# EAGLE library part 3310PANEL (library mastrogippo)
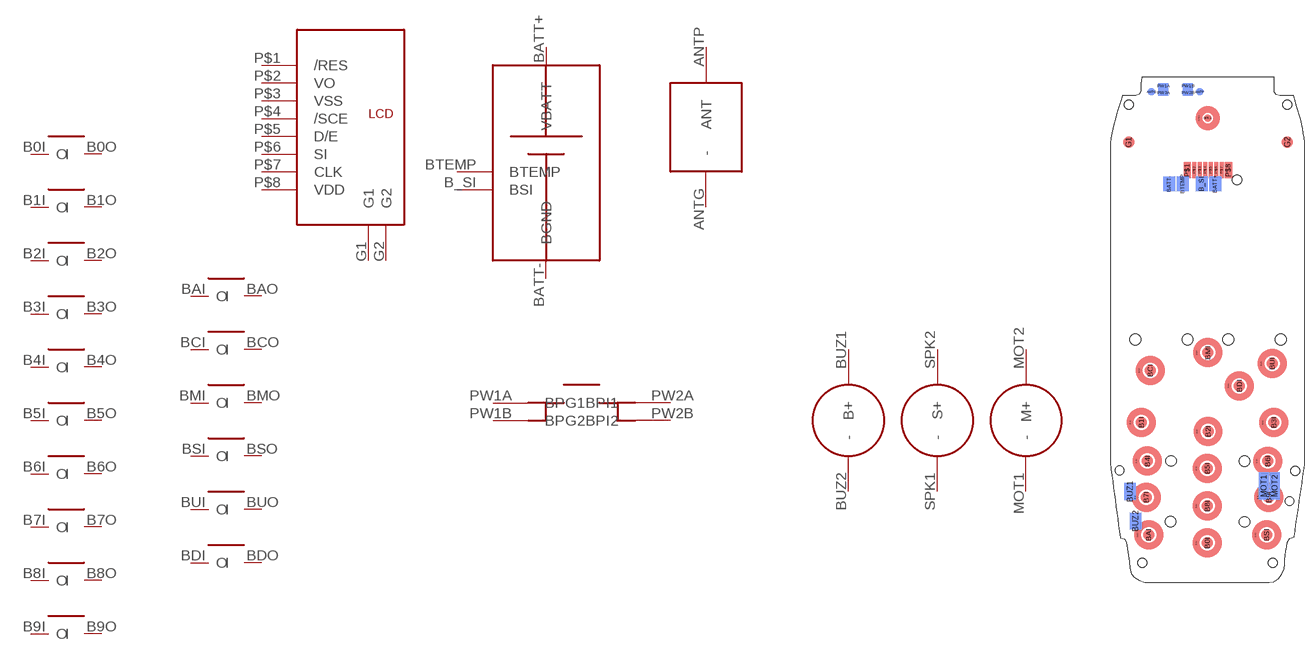
[diagram p5: symbol with the pads of 3310LCD; footprint 3310LCD]

Designator prefix -; gates G$1=3310LCD G$2=3310KEYB G$3=3310KEYB G$4=3310KEYB G$5=3310KEYB G$6=3310KEYB G$7=3310KEYB G$8=3310KEYB G$9=3310KEYB G$10=3310KEYB G$11=3310KEYB G$12=3310KEYB G$13=3310KEYB G$14=3310KEYB G$15=3310KEYB G$16=3310KEYB G$17=3310KEYB G$18=3310BTN G$19=3310BATT G$20=3310BUZZ G$21=3310ANT G$22=3310SPK G$23=3310MOTOR

## 3310PANEL  [3310LCD]
ANTG  G$21:-
ANTP  G$21:ANT
B0I  G$2:I
B0O  G$2:O
B1I  G$3:I
B1O  G$3:O
B2I  G$4:I
B2O  G$4:O
B3I  G$5:I
B3O  G$5:O
B4I  G$6:I
B4O  G$6:O
B5I  G$7:I
B5O  G$7:O
B6I  G$8:I
B6O  G$8:O
B7I  G$9:I
B7O  G$9:O
B8I  G$10:I
B8O  G$10:O
B9I  G$11:I
B9O  G$11:O
B_SI  G$19:BSI
BAI  G$12:I
BAO  G$12:O
BATT+  G$19:VBATT
BATT-  G$19:BGND
BCI  G$13:I
BCO  G$13:O
BDI  G$17:I
BDO  G$17:O
BMI  G$14:I
BMO  G$14:O
BSI  G$15:I
BSO  G$15:O
BTEMP  G$19:BTEMP
BUI  G$16:I
BUO  G$16:O
BUZ1  G$20:B+
BUZ2  G$20:-
G1  G$1:G1
G2  G$1:G2
MOT1  G$23:-
MOT2  G$23:M+
P$1  G$1:/RES
P$2  G$1:VO
P$3  G$1:VSS
P$4  G$1:/SCE
P$5  G$1:D/E
P$6  G$1:SI
P$7  G$1:CLK
P$8  G$1:VDD
PW1A  G$18:BPG1
PW1B  G$18:BPG2
PW2A  G$18:BPI1
PW2B  G$18:BPI2
SPK1  G$22:-
SPK2  G$22:S+

## Footprint 3310LCD (pad centres in mm)
smd 1.651 x 1.651 bottom: ANTG 8.839,104.826; ANTP 19.126,104.826
smd 2.5 x 2.5: B0I 20.79,8.442; B1I 6.69,34.242; B2I 20.94,32.292; B3I 34.99,34.192; B4I 7.99,25.942; B5I 20.79,24.392; B6I 33.69,25.942; B7I 7.74,18.242; B8I 20.79,16.342; B9I 33.94,18.242; BAI 8.24,10.192; BCI 8.59,45.292; BDI 27.64,42.042; BMI 20.89,49.092; BSI 33.44,10.192; BUI 34.64,46.792; G1 3.99,94.092; G2 37.89,94.092
smd 0.406 x 0.813: B0O 18.49,8.392; B1O 4.39,34.192; B2O 18.64,32.242; B3O 32.69,34.142; B4O 5.69,25.892; B5O 18.49,24.342; B6O 31.39,25.892; B7O 5.44,18.192; B8O 18.49,16.292; B9O 31.64,18.192; BAO 5.94,10.142; BCO 6.29,45.242; BDO 25.34,41.992; BMO 18.59,49.042; BSO 31.14,10.142; BUO 32.34,46.742; SPK2 19.066,99.191
smd 2.54 x 3.175 bottom: B_SI 19.583,85.166; BATT+ 22.454,85.166; BATT- 12.649,85.166; BTEMP 15.519,85.166
smd 2.489 x 3.556 bottom: BUZ1 4.267,19.456; BUZ2 5.436,13.132
smd 2.134 x 5.715 bottom: MOT1 32.842,20.625; MOT2 35.179,20.625
smd 1.5 x 3.429: P$1 16.524,88.092; P$8 25.302,88.092
smd 0.889 x 3.429: P$2 17.992,88.092; P$3 19.16,88.092; P$4 20.329,88.092; P$5 21.497,88.092; P$6 22.666,88.092; P$7 23.834,88.092
smd 2.15 x 1.25 bottom: PW1A 11.409,106.061; PW1B 16.609,106.061; PW2A 11.409,104.615; PW2B 16.609,104.615
smd 1.651 x 1.651: SPK1 20.828,99.238
hole 1.905 at 37.885,102.041
hole 2 at 27.09,85.992
hole 1.905 at 3.985,102.041
hole 1.905 at 34.735,4.191
hole 1.905 at 6.885,4.241
hole 1.905 at 2.035,23.941
hole 1.905 at 39.535,23.891
hole 2.3 at 5.39,51.892
hole 2.3 at 16.54,51.892
hole 2.3 at 25.24,51.892
hole 2.3 at 36.44,51.892
hole 1.8 at 38.34,17.392
hole 2.2 at 13.04,25.992
hole 2.2 at 28.74,25.942
hole 2.2 at 28.69,12.942
hole 2.2 at 12.94,12.992